# Altium footprint library Kinetis ARM.PcbLib: 19 footprints (part 1 of 2)
Each footprint in its own frame and in the unit in brackets; x right, y up, seen from the top. Pads: shape width x height; smd on the part's side, far side on the other; paste and mask are expansions set on the pad; w line width, h text height; cw(c..) or ccw(c..) is an arc to the next point about the centre after c.
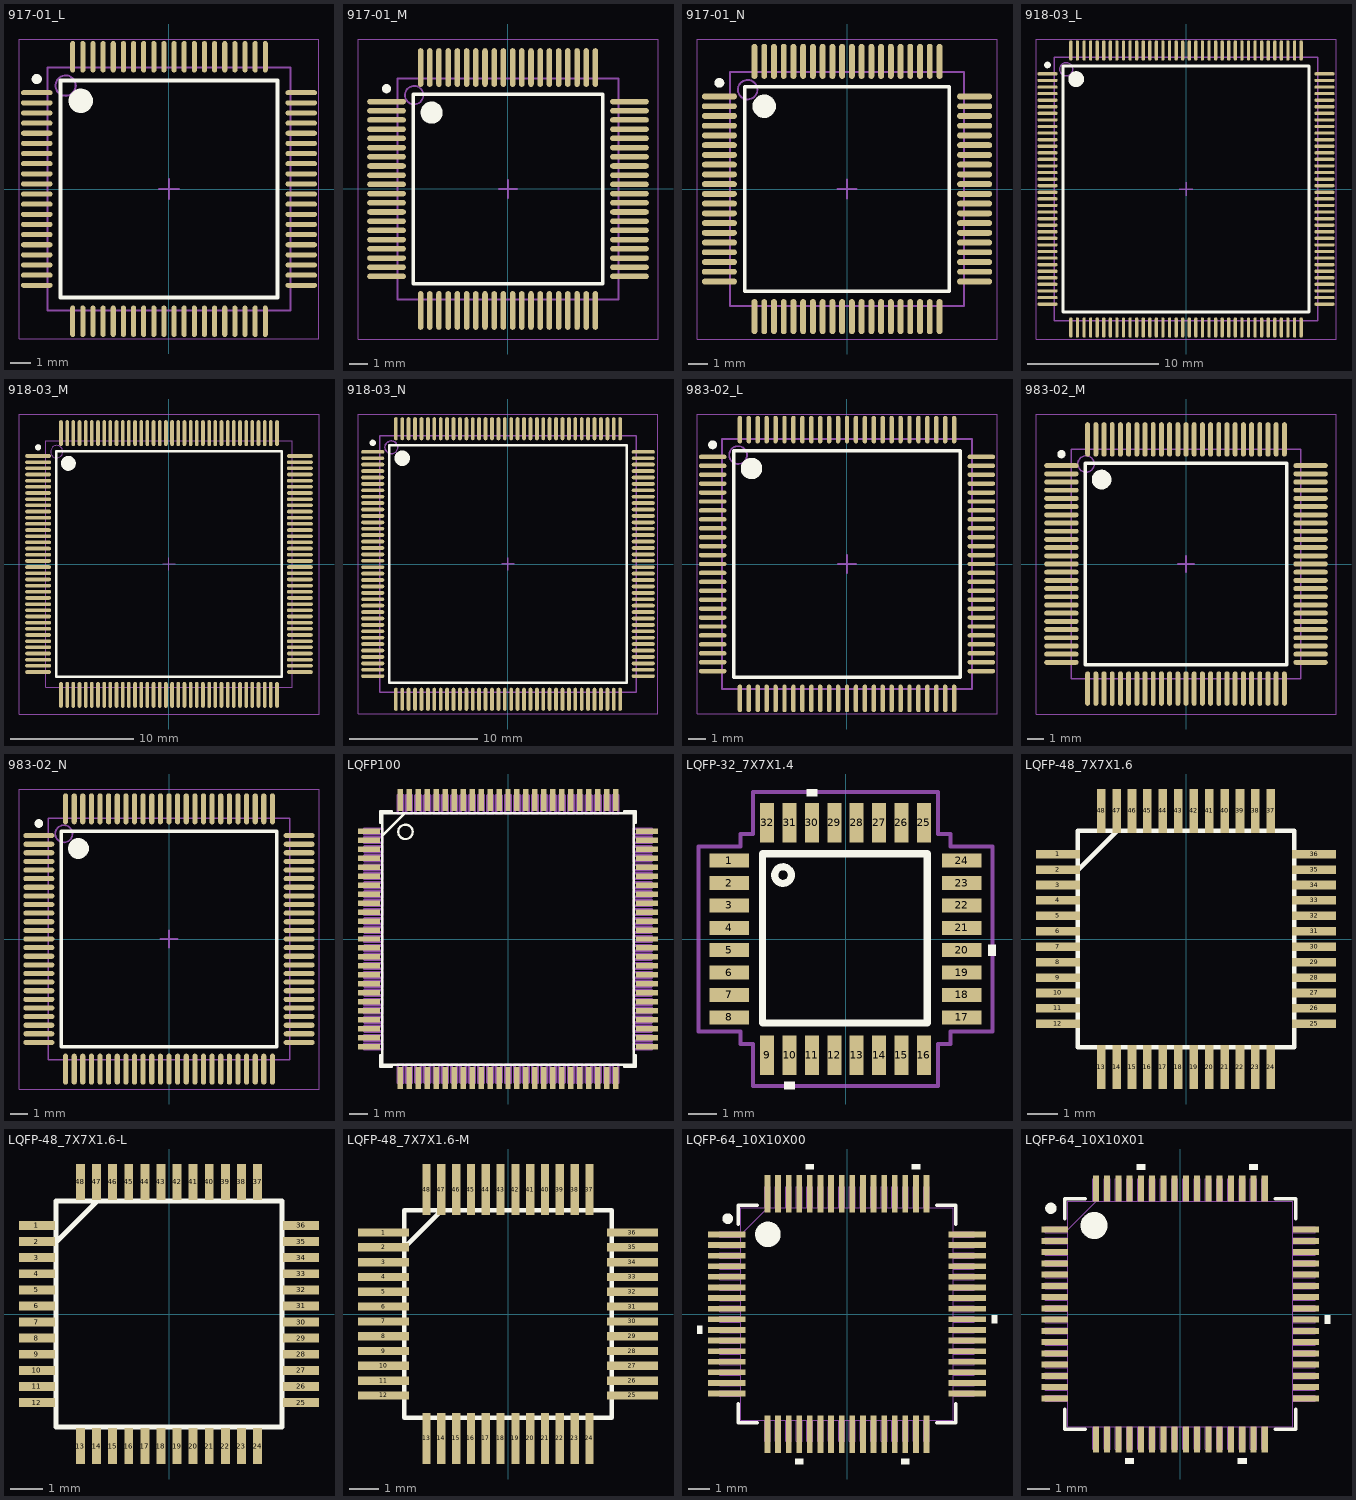
[diagram p0: the footprints below, top view; thin cyan lines are the x and y axes]

## 917-01_L [mm] "Thin QFP, 80-Leads, Body 12x12mm, Pitch 0.5mm, IPC High Density"
height 1.6
pads (80):
  oval 1.55x0.25 smd: 1(-6.525,4.75) 2(-6.525,4.25) 3(-6.525,3.75) 4(-6.525,3.25) 5(-6.525,2.75) 6(-6.525,2.25) 7(-6.525,1.75) 8(-6.525,1.25) 9(-6.525,0.75) 10(-6.525,0.25) 11(-6.525,-0.25) 12(-6.525,-0.75) 13(-6.525,-1.25) 14(-6.525,-1.75) 15(-6.525,-2.25) 16(-6.525,-2.75) 17(-6.525,-3.25) 18(-6.525,-3.75) 19(-6.525,-4.25) 20(-6.525,-4.75) 41(6.525,-4.75) 42(6.525,-4.25) 43(6.525,-3.75) 44(6.525,-3.25) 45(6.525,-2.75) 46(6.525,-2.25) 47(6.525,-1.75) 48(6.525,-1.25) 49(6.525,-0.75) 50(6.525,-0.25) 51(6.525,0.25) 52(6.525,0.75) 53(6.525,1.25) 54(6.525,1.75) 55(6.525,2.25) 56(6.525,2.75) 57(6.525,3.25) 58(6.525,3.75) 59(6.525,4.25) 60(6.525,4.75)
  oval 0.25x1.55 smd: 21(-4.75,-6.525) 22(-4.25,-6.525) 23(-3.75,-6.525) 24(-3.25,-6.525) 25(-2.75,-6.525) 26(-2.25,-6.525) 27(-1.75,-6.525) 28(-1.25,-6.525) 29(-0.75,-6.525) 30(-0.25,-6.525) 31(0.25,-6.525) 32(0.75,-6.525) 33(1.25,-6.525) 34(1.75,-6.525) 35(2.25,-6.525) 36(2.75,-6.525) 37(3.25,-6.525) 38(3.75,-6.525) 39(4.25,-6.525) 40(4.75,-6.525) 61(4.75,6.525) 62(4.25,6.525) 63(3.75,6.525) 64(3.25,6.525) 65(2.75,6.525) 66(2.25,6.525) 67(1.75,6.525) 68(1.25,6.525) 69(0.75,6.525) 70(0.25,6.525) 71(-0.25,6.525) 72(-0.75,6.525) 73(-1.25,6.525) 74(-1.75,6.525) 75(-2.25,6.525) 76(-2.75,6.525) 77(-3.25,6.525) 78(-3.75,6.525) 79(-4.25,6.525) 80(-4.75,6.525)
Top Overlay:
  circle w0.25: c-6.525,5.425 r0.125
  circle w0.6: c-4.35,4.35 r0.3
  lines w0.2: -5.35,-5.35 -5.35,5.35 5.35,5.35 5.35,-5.35 -5.35,-5.35
Mechanical 13:
  circle w0.1: c-5.1,5.1 r0.5
  lines w0.1: -6,-6 -6,6 6,6 6,-6 -6,-6
Mechanical 15:
  lines w0.05: -7.4,-7.4 -7.4,7.4 7.4,7.4 7.4,-7.4 -7.4,-7.4
  lines w0.1: -0.5,0 0.5,0 ; 0,-0.5 0,0.5
3D body "TQFP80.STEP": height 1.07, standoff 0.01, extent -7,-7 7,7

## 917-01_M [mm] "Thin QFP, 80-Leads, Body 12x12mm, Pitch 0.5mm, IPC Low Density"
height 1.6
pads (80):
  oval 2.1x0.3 smd: 1(-6.6,4.75) 2(-6.6,4.25) 3(-6.6,3.75) 4(-6.6,3.25) 5(-6.6,2.75) 6(-6.6,2.25) 7(-6.6,1.75) 8(-6.6,1.25) 9(-6.6,0.75) 10(-6.6,0.25) 11(-6.6,-0.25) 12(-6.6,-0.75) 13(-6.6,-1.25) 14(-6.6,-1.75) 15(-6.6,-2.25) 16(-6.6,-2.75) 17(-6.6,-3.25) 18(-6.6,-3.75) 19(-6.6,-4.25) 20(-6.6,-4.75) 41(6.6,-4.75) 42(6.6,-4.25) 43(6.6,-3.75) 44(6.6,-3.25) 45(6.6,-2.75) 46(6.6,-2.25) 47(6.6,-1.75) 48(6.6,-1.25) 49(6.6,-0.75) 50(6.6,-0.25) 51(6.6,0.25) 52(6.6,0.75) 53(6.6,1.25) 54(6.6,1.75) 55(6.6,2.25) 56(6.6,2.75) 57(6.6,3.25) 58(6.6,3.75) 59(6.6,4.25) 60(6.6,4.75)
  oval 0.3x2.1 smd: 21(-4.75,-6.6) 22(-4.25,-6.6) 23(-3.75,-6.6) 24(-3.25,-6.6) 25(-2.75,-6.6) 26(-2.25,-6.6) 27(-1.75,-6.6) 28(-1.25,-6.6) 29(-0.75,-6.6) 30(-0.25,-6.6) 31(0.25,-6.6) 32(0.75,-6.6) 33(1.25,-6.6) 34(1.75,-6.6) 35(2.25,-6.6) 36(2.75,-6.6) 37(3.25,-6.6) 38(3.75,-6.6) 39(4.25,-6.6) 40(4.75,-6.6) 61(4.75,6.6) 62(4.25,6.6) 63(3.75,6.6) 64(3.25,6.6) 65(2.75,6.6) 66(2.25,6.6) 67(1.75,6.6) 68(1.25,6.6) 69(0.75,6.6) 70(0.25,6.6) 71(-0.25,6.6) 72(-0.75,6.6) 73(-1.25,6.6) 74(-1.75,6.6) 75(-2.25,6.6) 76(-2.75,6.6) 77(-3.25,6.6) 78(-3.75,6.6) 79(-4.25,6.6) 80(-4.75,6.6)
Top Overlay:
  circle w0.25: c-6.6,5.45 r0.125
  circle w0.6: c-4.15,4.15 r0.3
  lines w0.2: -5.15,-5.15 -5.15,5.15 5.15,5.15 5.15,-5.15 -5.15,-5.15
Mechanical 13:
  circle w0.1: c-5.1,5.1 r0.5
  lines w0.1: -6,-6 -6,6 6,6 6,-6 -6,-6
Mechanical 15:
  lines w0.05: -8.15,-8.15 -8.15,8.15 8.15,8.15 8.15,-8.15 -8.15,-8.15
  lines w0.1: -0.5,0 0.5,0 ; 0,-0.5 0,0.5
3D body "TQFP80.STEP": height 1.07, standoff 0.01, extent -7.01,-6.99 6.99,7.01

## 917-01_N [mm] "Thin QFP, 80-Leads, Body 12x12mm, Pitch 0.5mm, IPC Medium Density"
height 1.6
pads (80):
  oval 1.8x0.3 smd: 1(-6.55,4.75) 2(-6.55,4.25) 3(-6.55,3.75) 4(-6.55,3.25) 5(-6.55,2.75) 6(-6.55,2.25) 7(-6.55,1.75) 8(-6.55,1.25) 9(-6.55,0.75) 10(-6.55,0.25) 11(-6.55,-0.25) 12(-6.55,-0.75) 13(-6.55,-1.25) 14(-6.55,-1.75) 15(-6.55,-2.25) 16(-6.55,-2.75) 17(-6.55,-3.25) 18(-6.55,-3.75) 19(-6.55,-4.25) 20(-6.55,-4.75) 41(6.55,-4.75) 42(6.55,-4.25) 43(6.55,-3.75) 44(6.55,-3.25) 45(6.55,-2.75) 46(6.55,-2.25) 47(6.55,-1.75) 48(6.55,-1.25) 49(6.55,-0.75) 50(6.55,-0.25) 51(6.55,0.25) 52(6.55,0.75) 53(6.55,1.25) 54(6.55,1.75) 55(6.55,2.25) 56(6.55,2.75) 57(6.55,3.25) 58(6.55,3.75) 59(6.55,4.25) 60(6.55,4.75)
  oval 0.3x1.8 smd: 21(-4.75,-6.55) 22(-4.25,-6.55) 23(-3.75,-6.55) 24(-3.25,-6.55) 25(-2.75,-6.55) 26(-2.25,-6.55) 27(-1.75,-6.55) 28(-1.25,-6.55) 29(-0.75,-6.55) 30(-0.25,-6.55) 31(0.25,-6.55) 32(0.75,-6.55) 33(1.25,-6.55) 34(1.75,-6.55) 35(2.25,-6.55) 36(2.75,-6.55) 37(3.25,-6.55) 38(3.75,-6.55) 39(4.25,-6.55) 40(4.75,-6.55) 61(4.75,6.55) 62(4.25,6.55) 63(3.75,6.55) 64(3.25,6.55) 65(2.75,6.55) 66(2.25,6.55) 67(1.75,6.55) 68(1.25,6.55) 69(0.75,6.55) 70(0.25,6.55) 71(-0.25,6.55) 72(-0.75,6.55) 73(-1.25,6.55) 74(-1.75,6.55) 75(-2.25,6.55) 76(-2.75,6.55) 77(-3.25,6.55) 78(-3.75,6.55) 79(-4.25,6.55) 80(-4.75,6.55)
Top Overlay:
  circle w0.6: c-4.25,4.25 r0.3
  circle w0.25: c-6.55,5.45 r0.125
  lines w0.2: -5.25,-5.25 5.25,-5.25 5.25,5.25 -5.25,5.25 -5.25,-5.25
Mechanical 13:
  circle w0.1: c-5.1,5.1 r0.5
  lines w0.1: -6,-6 6,-6 6,6 -6,6 -6,-6
Mechanical 15:
  lines w0.05: -7.7,-7.7 7.7,-7.7 7.7,7.7 -7.7,7.7 -7.7,-7.7
  lines w0.1: -0.5,0 0.5,0 ; 0,-0.5 0,0.5
3D body "TQFP80.STEP": height 1.07, standoff 0.01, extent -6.985,-6.99 7.015,7.01

## 918-03_L [mm] "Thin QFP, 144-Leads, Body 20x20mm, Pitch 0.5mm, IPC High Density"
height 1.6
pads (144):
  oval 1.55x0.25 smd: 1(-10.525,8.75) 2(-10.525,8.25) 3(-10.525,7.75) 4(-10.525,7.25) 5(-10.525,6.75) 6(-10.525,6.25) 7(-10.525,5.75) 8(-10.525,5.25) 9(-10.525,4.75) 10(-10.525,4.25) 11(-10.525,3.75) 12(-10.525,3.25) 13(-10.525,2.75) 14(-10.525,2.25) 15(-10.525,1.75) 16(-10.525,1.25) 17(-10.525,0.75) 18(-10.525,0.25) 19(-10.525,-0.25) 20(-10.525,-0.75) 21(-10.525,-1.25) 22(-10.525,-1.75) 23(-10.525,-2.25) 24(-10.525,-2.75) 25(-10.525,-3.25) 26(-10.525,-3.75) 27(-10.525,-4.25) 28(-10.525,-4.75) 29(-10.525,-5.25) 30(-10.525,-5.75) 31(-10.525,-6.25) 32(-10.525,-6.75) 33(-10.525,-7.25) 34(-10.525,-7.75) 35(-10.525,-8.25) 36(-10.525,-8.75) 73(10.525,-8.75) 74(10.525,-8.25) 75(10.525,-7.75) 76(10.525,-7.25) 77(10.525,-6.75) 78(10.525,-6.25) 79(10.525,-5.75) 80(10.525,-5.25) 81(10.525,-4.75) 82(10.525,-4.25) 83(10.525,-3.75) 84(10.525,-3.25) 85(10.525,-2.75) 86(10.525,-2.25) 87(10.525,-1.75) 88(10.525,-1.25) 89(10.525,-0.75) 90(10.525,-0.25) 91(10.525,0.25) 92(10.525,0.75) 93(10.525,1.25) 94(10.525,1.75) 95(10.525,2.25) 96(10.525,2.75) 97(10.525,3.25) 98(10.525,3.75) 99(10.525,4.25) 100(10.525,4.75) 101(10.525,5.25) 102(10.525,5.75) 103(10.525,6.25) 104(10.525,6.75) 105(10.525,7.25) 106(10.525,7.75) 107(10.525,8.25) 108(10.525,8.75)
  oval 0.25x1.55 smd: 37(-8.75,-10.525) 38(-8.25,-10.525) 39(-7.75,-10.525) 40(-7.25,-10.525) 41(-6.75,-10.525) 42(-6.25,-10.525) 43(-5.75,-10.525) 44(-5.25,-10.525) 45(-4.75,-10.525) 46(-4.25,-10.525) 47(-3.75,-10.525) 48(-3.25,-10.525) 49(-2.75,-10.525) 50(-2.25,-10.525) 51(-1.75,-10.525) 52(-1.25,-10.525) 53(-0.75,-10.525) 54(-0.25,-10.525) 55(0.25,-10.525) 56(0.75,-10.525) 57(1.25,-10.525) 58(1.75,-10.525) 59(2.25,-10.525) 60(2.75,-10.525) 61(3.25,-10.525) 62(3.75,-10.525) 63(4.25,-10.525) 64(4.75,-10.525) 65(5.25,-10.525) 66(5.75,-10.525) 67(6.25,-10.525) 68(6.75,-10.525) 69(7.25,-10.525) 70(7.75,-10.525) 71(8.25,-10.525) 72(8.75,-10.525) 109(8.75,10.525) 110(8.25,10.525) 111(7.75,10.525) 112(7.25,10.525) 113(6.75,10.525) 114(6.25,10.525) 115(5.75,10.525) 116(5.25,10.525) 117(4.75,10.525) 118(4.25,10.525) 119(3.75,10.525) 120(3.25,10.525) 121(2.75,10.525) 122(2.25,10.525) 123(1.75,10.525) 124(1.25,10.525) 125(0.75,10.525) 126(0.25,10.525) 127(-0.25,10.525) 128(-0.75,10.525) 129(-1.25,10.525) 130(-1.75,10.525) 131(-2.25,10.525) 132(-2.75,10.525) 133(-3.25,10.525) 134(-3.75,10.525) 135(-4.25,10.525) 136(-4.75,10.525) 137(-5.25,10.525) 138(-5.75,10.525) 139(-6.25,10.525) 140(-6.75,10.525) 141(-7.25,10.525) 142(-7.75,10.525) 143(-8.25,10.525) 144(-8.75,10.525)
Top Overlay:
  circle w0.25: c-10.525,9.425 r0.125
  circle w0.6: c-8.35,8.35 r0.3
  lines w0.2: -9.35,-9.35 -9.35,9.35 9.35,9.35 9.35,-9.35 -9.35,-9.35
Mechanical 13:
  circle w0.1: c-9.1,9.1 r0.5
  lines w0.1: -10,-10 -10,10 10,10 10,-10 -10,-10
Mechanical 15:
  lines w0.05: -11.4,-11.4 -11.4,11.4 11.4,11.4 11.4,-11.4 -11.4,-11.4
  lines w0.1: -0.5,0 0.5,0 ; 0,-0.5 0,0.5
3D body "LQFP144-2.step": height 1.61, standoff 0.01, extent -10.998,-10.976 11.002,11.024

## 918-03_M [mm] "Thin QFP, 144-Leads, Body 20x20mm, Pitch 0.5mm, IPC Low Density"
height 1.6
pads (144):
  oval 2.1x0.3 smd: 1(-10.6,8.75) 2(-10.6,8.25) 3(-10.6,7.75) 4(-10.6,7.25) 5(-10.6,6.75) 6(-10.6,6.25) 7(-10.6,5.75) 8(-10.6,5.25) 9(-10.6,4.75) 10(-10.6,4.25) 11(-10.6,3.75) 12(-10.6,3.25) 13(-10.6,2.75) 14(-10.6,2.25) 15(-10.6,1.75) 16(-10.6,1.25) 17(-10.6,0.75) 18(-10.6,0.25) 19(-10.6,-0.25) 20(-10.6,-0.75) 21(-10.6,-1.25) 22(-10.6,-1.75) 23(-10.6,-2.25) 24(-10.6,-2.75) 25(-10.6,-3.25) 26(-10.6,-3.75) 27(-10.6,-4.25) 28(-10.6,-4.75) 29(-10.6,-5.25) 30(-10.6,-5.75) 31(-10.6,-6.25) 32(-10.6,-6.75) 33(-10.6,-7.25) 34(-10.6,-7.75) 35(-10.6,-8.25) 36(-10.6,-8.75) 73(10.6,-8.75) 74(10.6,-8.25) 75(10.6,-7.75) 76(10.6,-7.25) 77(10.6,-6.75) 78(10.6,-6.25) 79(10.6,-5.75) 80(10.6,-5.25) 81(10.6,-4.75) 82(10.6,-4.25) 83(10.6,-3.75) 84(10.6,-3.25) 85(10.6,-2.75) 86(10.6,-2.25) 87(10.6,-1.75) 88(10.6,-1.25) 89(10.6,-0.75) 90(10.6,-0.25) 91(10.6,0.25) 92(10.6,0.75) 93(10.6,1.25) 94(10.6,1.75) 95(10.6,2.25) 96(10.6,2.75) 97(10.6,3.25) 98(10.6,3.75) 99(10.6,4.25) 100(10.6,4.75) 101(10.6,5.25) 102(10.6,5.75) 103(10.6,6.25) 104(10.6,6.75) 105(10.6,7.25) 106(10.6,7.75) 107(10.6,8.25) 108(10.6,8.75)
  oval 0.3x2.1 smd: 37(-8.75,-10.6) 38(-8.25,-10.6) 39(-7.75,-10.6) 40(-7.25,-10.6) 41(-6.75,-10.6) 42(-6.25,-10.6) 43(-5.75,-10.6) 44(-5.25,-10.6) 45(-4.75,-10.6) 46(-4.25,-10.6) 47(-3.75,-10.6) 48(-3.25,-10.6) 49(-2.75,-10.6) 50(-2.25,-10.6) 51(-1.75,-10.6) 52(-1.25,-10.6) 53(-0.75,-10.6) 54(-0.25,-10.6) 55(0.25,-10.6) 56(0.75,-10.6) 57(1.25,-10.6) 58(1.75,-10.6) 59(2.25,-10.6) 60(2.75,-10.6) 61(3.25,-10.6) 62(3.75,-10.6) 63(4.25,-10.6) 64(4.75,-10.6) 65(5.25,-10.6) 66(5.75,-10.6) 67(6.25,-10.6) 68(6.75,-10.6) 69(7.25,-10.6) 70(7.75,-10.6) 71(8.25,-10.6) 72(8.75,-10.6) 109(8.75,10.6) 110(8.25,10.6) 111(7.75,10.6) 112(7.25,10.6) 113(6.75,10.6) 114(6.25,10.6) 115(5.75,10.6) 116(5.25,10.6) 117(4.75,10.6) 118(4.25,10.6) 119(3.75,10.6) 120(3.25,10.6) 121(2.75,10.6) 122(2.25,10.6) 123(1.75,10.6) 124(1.25,10.6) 125(0.75,10.6) 126(0.25,10.6) 127(-0.25,10.6) 128(-0.75,10.6) 129(-1.25,10.6) 130(-1.75,10.6) 131(-2.25,10.6) 132(-2.75,10.6) 133(-3.25,10.6) 134(-3.75,10.6) 135(-4.25,10.6) 136(-4.75,10.6) 137(-5.25,10.6) 138(-5.75,10.6) 139(-6.25,10.6) 140(-6.75,10.6) 141(-7.25,10.6) 142(-7.75,10.6) 143(-8.25,10.6) 144(-8.75,10.6)
Top Overlay:
  circle w0.25: c-10.6,9.45 r0.125
  circle w0.6: c-8.15,8.15 r0.3
  lines w0.2: -9.15,-9.15 -9.15,9.15 9.15,9.15 9.15,-9.15 -9.15,-9.15
Mechanical 13:
  circle w0.1: c-9.1,9.1 r0.5
  lines w0.1: -10,-10 -10,10 10,10 10,-10 -10,-10
Mechanical 15:
  lines w0.05: -12.15,-12.15 -12.15,12.15 12.15,12.15 12.15,-12.15 -12.15,-12.15
  lines w0.1: -0.5,0 0.5,0 ; 0,-0.5 0,0.5
3D body "LQFP144-2.step": height 1.61, standoff 0.01, extent -10.998,-11.002 11.002,10.998

## 918-03_N [mm] "Thin QFP, 144-Leads, Body 20x20mm, Pitch 0.5mm, IPC Medium Density"
height 1.6
pads (144):
  oval 1.8x0.3 smd: 1(-10.55,8.75) 2(-10.55,8.25) 3(-10.55,7.75) 4(-10.55,7.25) 5(-10.55,6.75) 6(-10.55,6.25) 7(-10.55,5.75) 8(-10.55,5.25) 9(-10.55,4.75) 10(-10.55,4.25) 11(-10.55,3.75) 12(-10.55,3.25) 13(-10.55,2.75) 14(-10.55,2.25) 15(-10.55,1.75) 16(-10.55,1.25) 17(-10.55,0.75) 18(-10.55,0.25) 19(-10.55,-0.25) 20(-10.55,-0.75) 21(-10.55,-1.25) 22(-10.55,-1.75) 23(-10.55,-2.25) 24(-10.55,-2.75) 25(-10.55,-3.25) 26(-10.55,-3.75) 27(-10.55,-4.25) 28(-10.55,-4.75) 29(-10.55,-5.25) 30(-10.55,-5.75) 31(-10.55,-6.25) 32(-10.55,-6.75) 33(-10.55,-7.25) 34(-10.55,-7.75) 35(-10.55,-8.25) 36(-10.55,-8.75) 73(10.55,-8.75) 74(10.55,-8.25) 75(10.55,-7.75) 76(10.55,-7.25) 77(10.55,-6.75) 78(10.55,-6.25) 79(10.55,-5.75) 80(10.55,-5.25) 81(10.55,-4.75) 82(10.55,-4.25) 83(10.55,-3.75) 84(10.55,-3.25) 85(10.55,-2.75) 86(10.55,-2.25) 87(10.55,-1.75) 88(10.55,-1.25) 89(10.55,-0.75) 90(10.55,-0.25) 91(10.55,0.25) 92(10.55,0.75) 93(10.55,1.25) 94(10.55,1.75) 95(10.55,2.25) 96(10.55,2.75) 97(10.55,3.25) 98(10.55,3.75) 99(10.55,4.25) 100(10.55,4.75) 101(10.55,5.25) 102(10.55,5.75) 103(10.55,6.25) 104(10.55,6.75) 105(10.55,7.25) 106(10.55,7.75) 107(10.55,8.25) 108(10.55,8.75)
  oval 0.3x1.8 smd: 37(-8.75,-10.55) 38(-8.25,-10.55) 39(-7.75,-10.55) 40(-7.25,-10.55) 41(-6.75,-10.55) 42(-6.25,-10.55) 43(-5.75,-10.55) 44(-5.25,-10.55) 45(-4.75,-10.55) 46(-4.25,-10.55) 47(-3.75,-10.55) 48(-3.25,-10.55) 49(-2.75,-10.55) 50(-2.25,-10.55) 51(-1.75,-10.55) 52(-1.25,-10.55) 53(-0.75,-10.55) 54(-0.25,-10.55) 55(0.25,-10.55) 56(0.75,-10.55) 57(1.25,-10.55) 58(1.75,-10.55) 59(2.25,-10.55) 60(2.75,-10.55) 61(3.25,-10.55) 62(3.75,-10.55) 63(4.25,-10.55) 64(4.75,-10.55) 65(5.25,-10.55) 66(5.75,-10.55) 67(6.25,-10.55) 68(6.75,-10.55) 69(7.25,-10.55) 70(7.75,-10.55) 71(8.25,-10.55) 72(8.75,-10.55) 109(8.75,10.55) 110(8.25,10.55) 111(7.75,10.55) 112(7.25,10.55) 113(6.75,10.55) 114(6.25,10.55) 115(5.75,10.55) 116(5.25,10.55) 117(4.75,10.55) 118(4.25,10.55) 119(3.75,10.55) 120(3.25,10.55) 121(2.75,10.55) 122(2.25,10.55) 123(1.75,10.55) 124(1.25,10.55) 125(0.75,10.55) 126(0.25,10.55) 127(-0.25,10.55) 128(-0.75,10.55) 129(-1.25,10.55) 130(-1.75,10.55) 131(-2.25,10.55) 132(-2.75,10.55) 133(-3.25,10.55) 134(-3.75,10.55) 135(-4.25,10.55) 136(-4.75,10.55) 137(-5.25,10.55) 138(-5.75,10.55) 139(-6.25,10.55) 140(-6.75,10.55) 141(-7.25,10.55) 142(-7.75,10.55) 143(-8.25,10.55) 144(-8.75,10.55)
Top Overlay:
  circle w0.6: c-8.25,8.25 r0.3
  circle w0.25: c-10.55,9.45 r0.125
  lines w0.2: -9.25,-9.25 9.25,-9.25 9.25,9.25 -9.25,9.25 -9.25,-9.25
Mechanical 13:
  circle w0.1: c-9.1,9.1 r0.5
  lines w0.1: -10,-10 10,-10 10,10 -10,10 -10,-10
Mechanical 15:
  lines w0.05: -11.7,-11.7 11.7,-11.7 11.7,11.7 -11.7,11.7 -11.7,-11.7
  lines w0.1: -0.5,0 0.5,0 ; 0,-0.5 0,0.5
3D body "LQFP144-2.step": height 1.61, standoff 0.01, extent -10.998,-11.002 11.002,10.998

## 983-02_L [mm] "Shrink QFP, 100-Leads, Body 14x14mm, Pitch 0.5mm, IPC High Density"
height 1.7
pads (100):
  oval 1.55x0.25 smd: 1(-7.525,6) 2(-7.525,5.5) 3(-7.525,5) 4(-7.525,4.5) 5(-7.525,4) 6(-7.525,3.5) 7(-7.525,3) 8(-7.525,2.5) 9(-7.525,2) 10(-7.525,1.5) 11(-7.525,1) 12(-7.525,0.5) 13(-7.525,0) 14(-7.525,-0.5) 15(-7.525,-1) 16(-7.525,-1.5) 17(-7.525,-2) 18(-7.525,-2.5) 19(-7.525,-3) 20(-7.525,-3.5) 21(-7.525,-4) 22(-7.525,-4.5) 23(-7.525,-5) 24(-7.525,-5.5) 25(-7.525,-6) 51(7.525,-6) 52(7.525,-5.5) 53(7.525,-5) 54(7.525,-4.5) 55(7.525,-4) 56(7.525,-3.5) 57(7.525,-3) 58(7.525,-2.5) 59(7.525,-2) 60(7.525,-1.5) 61(7.525,-1) 62(7.525,-0.5) 63(7.525,0) 64(7.525,0.5) 65(7.525,1) 66(7.525,1.5) 67(7.525,2) 68(7.525,2.5) 69(7.525,3) 70(7.525,3.5) 71(7.525,4) 72(7.525,4.5) 73(7.525,5) 74(7.525,5.5) 75(7.525,6)
  oval 0.25x1.55 smd: 26(-6,-7.525) 27(-5.5,-7.525) 28(-5,-7.525) 29(-4.5,-7.525) 30(-4,-7.525) 31(-3.5,-7.525) 32(-3,-7.525) 33(-2.5,-7.525) 34(-2,-7.525) 35(-1.5,-7.525) 36(-1,-7.525) 37(-0.5,-7.525) 38(0,-7.525) 39(0.5,-7.525) 40(1,-7.525) 41(1.5,-7.525) 42(2,-7.525) 43(2.5,-7.525) 44(3,-7.525) 45(3.5,-7.525) 46(4,-7.525) 47(4.5,-7.525) 48(5,-7.525) 49(5.5,-7.525) 50(6,-7.525) 76(6,7.525) 77(5.5,7.525) 78(5,7.525) 79(4.5,7.525) 80(4,7.525) 81(3.5,7.525) 82(3,7.525) 83(2.5,7.525) 84(2,7.525) 85(1.5,7.525) 86(1,7.525) 87(0.5,7.525) 88(0,7.525) 89(-0.5,7.525) 90(-1,7.525) 91(-1.5,7.525) 92(-2,7.525) 93(-2.5,7.525) 94(-3,7.525) 95(-3.5,7.525) 96(-4,7.525) 97(-4.5,7.525) 98(-5,7.525) 99(-5.5,7.525) 100(-6,7.525)
Top Overlay:
  circle w0.6: c-5.35,5.35 r0.3
  circle w0.25: c-7.525,6.675 r0.125
  lines w0.2: -6.35,-6.35 6.35,-6.35 6.35,6.35 -6.35,6.35 -6.35,-6.35
Mechanical 13:
  circle w0.1: c-6.1,6.1 r0.5
  lines w0.1: -7,-7 7,-7 7,7 -7,7 -7,-7
Mechanical 15:
  lines w0.05: -8.4,-8.4 8.4,-8.4 8.4,8.4 -8.4,8.4 -8.4,-8.4
  lines w0.1: -0.5,0 0.5,0 ; 0,-0.5 0,0.5
3D body "TQFP100-1.STEP": height 1.46, standoff -0.16, extent -8.001,-7.999 7.999,8.001

## 983-02_M [mm] "Shrink QFP, 100-Leads, Body 14x14mm, Pitch 0.5mm, IPC Low Density"
height 1.7
pads (100):
  oval 2.1x0.3 smd: 1(-7.6,6) 2(-7.6,5.5) 3(-7.6,5) 4(-7.6,4.5) 5(-7.6,4) 6(-7.6,3.5) 7(-7.6,3) 8(-7.6,2.5) 9(-7.6,2) 10(-7.6,1.5) 11(-7.6,1) 12(-7.6,0.5) 13(-7.6,0) 14(-7.6,-0.5) 15(-7.6,-1) 16(-7.6,-1.5) 17(-7.6,-2) 18(-7.6,-2.5) 19(-7.6,-3) 20(-7.6,-3.5) 21(-7.6,-4) 22(-7.6,-4.5) 23(-7.6,-5) 24(-7.6,-5.5) 25(-7.6,-6) 51(7.6,-6) 52(7.6,-5.5) 53(7.6,-5) 54(7.6,-4.5) 55(7.6,-4) 56(7.6,-3.5) 57(7.6,-3) 58(7.6,-2.5) 59(7.6,-2) 60(7.6,-1.5) 61(7.6,-1) 62(7.6,-0.5) 63(7.6,0) 64(7.6,0.5) 65(7.6,1) 66(7.6,1.5) 67(7.6,2) 68(7.6,2.5) 69(7.6,3) 70(7.6,3.5) 71(7.6,4) 72(7.6,4.5) 73(7.6,5) 74(7.6,5.5) 75(7.6,6)
  oval 0.3x2.1 smd: 26(-6,-7.6) 27(-5.5,-7.6) 28(-5,-7.6) 29(-4.5,-7.6) 30(-4,-7.6) 31(-3.5,-7.6) 32(-3,-7.6) 33(-2.5,-7.6) 34(-2,-7.6) 35(-1.5,-7.6) 36(-1,-7.6) 37(-0.5,-7.6) 38(0,-7.6) 39(0.5,-7.6) 40(1,-7.6) 41(1.5,-7.6) 42(2,-7.6) 43(2.5,-7.6) 44(3,-7.6) 45(3.5,-7.6) 46(4,-7.6) 47(4.5,-7.6) 48(5,-7.6) 49(5.5,-7.6) 50(6,-7.6) 76(6,7.6) 77(5.5,7.6) 78(5,7.6) 79(4.5,7.6) 80(4,7.6) 81(3.5,7.6) 82(3,7.6) 83(2.5,7.6) 84(2,7.6) 85(1.5,7.6) 86(1,7.6) 87(0.5,7.6) 88(0,7.6) 89(-0.5,7.6) 90(-1,7.6) 91(-1.5,7.6) 92(-2,7.6) 93(-2.5,7.6) 94(-3,7.6) 95(-3.5,7.6) 96(-4,7.6) 97(-4.5,7.6) 98(-5,7.6) 99(-5.5,7.6) 100(-6,7.6)
Top Overlay:
  circle w0.25: c-7.6,6.7 r0.125
  circle w0.6: c-5.15,5.15 r0.3
  lines w0.2: -6.15,-6.15 -6.15,6.15 6.15,6.15 6.15,-6.15 -6.15,-6.15
Mechanical 13:
  circle w0.1: c-6.1,6.1 r0.5
  lines w0.1: -7,-7 -7,7 7,7 7,-7 -7,-7
Mechanical 15:
  lines w0.05: -9.15,-9.15 -9.15,9.15 9.15,9.15 9.15,-9.15 -9.15,-9.15
  lines w0.1: -0.5,0 0.5,0 ; 0,-0.5 0,0.5
3D body "TQFP100-1.STEP": height 1.46, standoff -0.16, extent -8.001,-7.999 7.999,8.001

## 983-02_N [mm] "Shrink QFP, 100-Leads, Body 14x14mm, Pitch 0.5mm, IPC Medium Density"
height 1.7
pads (100):
  oval 1.8x0.3 smd: 1(-7.55,6) 2(-7.55,5.5) 3(-7.55,5) 4(-7.55,4.5) 5(-7.55,4) 6(-7.55,3.5) 7(-7.55,3) 8(-7.55,2.5) 9(-7.55,2) 10(-7.55,1.5) 11(-7.55,1) 12(-7.55,0.5) 13(-7.55,0) 14(-7.55,-0.5) 15(-7.55,-1) 16(-7.55,-1.5) 17(-7.55,-2) 18(-7.55,-2.5) 19(-7.55,-3) 20(-7.55,-3.5) 21(-7.55,-4) 22(-7.55,-4.5) 23(-7.55,-5) 24(-7.55,-5.5) 25(-7.55,-6) 51(7.55,-6) 52(7.55,-5.5) 53(7.55,-5) 54(7.55,-4.5) 55(7.55,-4) 56(7.55,-3.5) 57(7.55,-3) 58(7.55,-2.5) 59(7.55,-2) 60(7.55,-1.5) 61(7.55,-1) 62(7.55,-0.5) 63(7.55,0) 64(7.55,0.5) 65(7.55,1) 66(7.55,1.5) 67(7.55,2) 68(7.55,2.5) 69(7.55,3) 70(7.55,3.5) 71(7.55,4) 72(7.55,4.5) 73(7.55,5) 74(7.55,5.5) 75(7.55,6)
  oval 0.3x1.8 smd: 26(-6,-7.55) 27(-5.5,-7.55) 28(-5,-7.55) 29(-4.5,-7.55) 30(-4,-7.55) 31(-3.5,-7.55) 32(-3,-7.55) 33(-2.5,-7.55) 34(-2,-7.55) 35(-1.5,-7.55) 36(-1,-7.55) 37(-0.5,-7.55) 38(0,-7.55) 39(0.5,-7.55) 40(1,-7.55) 41(1.5,-7.55) 42(2,-7.55) 43(2.5,-7.55) 44(3,-7.55) 45(3.5,-7.55) 46(4,-7.55) 47(4.5,-7.55) 48(5,-7.55) 49(5.5,-7.55) 50(6,-7.55) 76(6,7.55) 77(5.5,7.55) 78(5,7.55) 79(4.5,7.55) 80(4,7.55) 81(3.5,7.55) 82(3,7.55) 83(2.5,7.55) 84(2,7.55) 85(1.5,7.55) 86(1,7.55) 87(0.5,7.55) 88(0,7.55) 89(-0.5,7.55) 90(-1,7.55) 91(-1.5,7.55) 92(-2,7.55) 93(-2.5,7.55) 94(-3,7.55) 95(-3.5,7.55) 96(-4,7.55) 97(-4.5,7.55) 98(-5,7.55) 99(-5.5,7.55) 100(-6,7.55)
Top Overlay:
  circle w0.25: c-7.55,6.7 r0.125
  circle w0.6: c-5.25,5.25 r0.3
  lines w0.2: -6.25,-6.25 -6.25,6.25 6.25,6.25 6.25,-6.25 -6.25,-6.25
Mechanical 13:
  circle w0.1: c-6.1,6.1 r0.5
  lines w0.1: -7,-7 -7,7 7,7 7,-7 -7,-7
Mechanical 15:
  lines w0.05: -8.7,-8.7 -8.7,8.7 8.7,8.7 8.7,-8.7 -8.7,-8.7
  lines w0.1: -0.5,0 0.5,0 ; 0,-0.5 0,0.5
3D body "TQFP100-1.STEP": height 1.46, standoff -0.16, extent -8.001,-7.999 7.999,8.001

## LQFP100 [mil]
pads (100):
  rect 48x12 smd: 1(-305,236.22) 2(-305,216.54) 3(-305,196.85) 4(-305,177.17) 5(-305,157.48) 6(-305,137.8) 7(-305,118.11) 8(-305,98.43) 9(-305,78.74) 10(-305,59.06) 11(-305,39.37) 12(-305,19.69) 13(-305,0) 14(-305,-19.69) 15(-305,-39.37) 16(-305,-59.06) 17(-305,-78.74) 18(-305,-98.43) 19(-305,-118.11) 20(-305,-137.8) 21(-305,-157.48) 22(-305,-177.17) 23(-305,-196.85) 24(-305,-216.54) 25(-305,-236.22) 51(305,-236.22) 52(305,-216.54) 53(305,-196.85) 54(305,-177.17) 55(305,-157.48) 56(305,-137.8) 57(305,-118.11) 58(305,-98.43) 59(305,-78.74) 60(305,-59.06) 61(305,-39.37) 62(305,-19.69) 63(305,0) 64(305,19.69) 65(305,39.37) 66(305,59.06) 67(305,78.74) 68(305,98.43) 69(305,118.11) 70(305,137.8) 71(305,157.48) 72(305,177.17) 73(305,196.85) 74(305,216.54) 75(305,236.22)
  rect 12x48 smd: 26(-236.22,-305) 27(-216.54,-305) 28(-196.85,-305) 29(-177.17,-305) 30(-157.48,-305) 31(-137.8,-305) 32(-118.11,-305) 33(-98.43,-305) 34(-78.74,-305) 35(-59.06,-305) 36(-39.37,-305) 37(-19.69,-305) 38(0,-305) 39(19.69,-305) 40(39.37,-305) 41(59.06,-305) 42(78.74,-305) 43(98.43,-305) 44(118.11,-305) 45(137.8,-305) 46(157.48,-305) 47(177.17,-305) 48(196.85,-305) 49(216.54,-305) 50(236.22,-305) 76(236.22,305) 77(216.54,305) 78(196.85,305) 79(177.17,305) 80(157.48,305) 81(137.8,305) 82(118.11,305) 83(98.43,305) 84(78.74,305) 85(59.06,305) 86(39.37,305) 87(19.69,305) 88(0,305) 89(-19.69,305) 90(-39.37,305) 91(-59.06,305) 92(-78.74,305) 93(-98.43,305) 94(-118.11,305) 95(-137.8,305) 96(-157.48,305) 97(-177.17,305) 98(-196.85,305) 99(-216.54,305) 100(-236.22,305)
Top Overlay:
  circle w5: c-225,235 r15.81
  lines w6: -280,-255 -280,-280 -255,-280 ; -280,255 -280,280 -255,280 ; -276,226 -226,276 ; 255,-280 280,-280 280,-255 ; 255,280 280,280 280,255 ; -276,-276 -276,276 276,276 276,-276 -276,-276
Mechanical 16:
  drawing of 400 lines, arcs and shapes, not listed
3D body "LQFP100_14x14mm_Pitch0.5mm.step": height 62.99, standoff 0, extent -313.96,-314.96 315.96,314.96

## LQFP-32_7X7X1.4 [mm]
pads (32):
  rect 1.411x0.501 smd: 1(-4.15,2.8) 2(-4.15,2) 3(-4.15,1.2) 4(-4.15,0.4) 5(-4.15,-0.4) 6(-4.15,-1.2) 7(-4.15,-2) 8(-4.15,-2.8) 17(4.15,-2.8) 18(4.15,-2) 19(4.15,-1.2) 20(4.15,-0.4) 21(4.15,0.4) 22(4.15,1.2) 23(4.15,2) 24(4.15,2.8)
  rect 0.501x1.411 smd: 9(-2.8,-4.15) 10(-2,-4.15) 11(-1.2,-4.15) 12(-0.4,-4.15) 13(0.4,-4.15) 14(1.2,-4.15) 15(2,-4.15) 16(2.8,-4.15) 25(2.8,4.15) 26(2,4.15) 27(1.2,4.15) 28(0.4,4.15) 29(-0.4,4.15) 30(-1.2,4.15) 31(-2,4.15) 32(-2.8,4.15)
Top Overlay:
  circle w0.254: c-2.235,2.286 r0.297
  region: -1.01,5.11 -1.391,5.11 -1.391,5.364 -1.01,5.364
  region: 5.11,-0.209 5.364,-0.209 5.364,-0.59 5.11,-0.59
  region: -1.81,-5.11 -2.191,-5.11 -2.191,-5.364 -1.81,-5.364
  lines w0.254: -2.972,-2.997 -2.972,3.048 2.921,3.048 2.921,-2.997 -2.972,-2.997
Mechanical 13:
  text "*" at -3.119,3.2 h1.27
Mechanical 15:
  lines w0.152: -5.258,-3.308 -5.258,3.308 -3.754,3.308 -3.754,3.754 -3.308,3.754 -3.308,5.258 3.308,5.258 3.308,3.754 3.754,3.754 3.754,3.308 5.258,3.308 5.258,-3.308 3.754,-3.308 3.754,-3.754 3.308,-3.754 3.308,-5.258 -3.308,-5.258 -3.308,-3.754 -3.754,-3.754 -3.754,-3.308 -5.258,-3.308
3D body "User Library-LQFP32-2.STEP": height 1.62, standoff -0.01, extent -4.572,-4.597 4.572,4.546

## LQFP-48_7X7X1.6 [mil]
pads (48):
  rect 56x11 smd: 1(-163.39,108.27) 2(-163.39,88.58) 3(-163.39,68.9) 4(-163.39,49.21) 5(-163.39,29.53) 6(-163.39,9.84) 7(-163.39,-9.84) 8(-163.39,-29.53) 9(-163.39,-49.21) 10(-163.39,-68.9) 11(-163.39,-88.58) 12(-163.39,-108.27) 25(163.39,-108.27) 26(163.39,-88.58) 27(163.39,-68.9) 28(163.39,-49.21) 29(163.39,-29.53) 30(163.39,-9.84) 31(163.39,9.84) 32(163.39,29.53) 33(163.39,49.21) 34(163.39,68.9) 35(163.39,88.58) 36(163.39,108.27)
  rect 11x56 smd: 13(-108.27,-163.39) 14(-88.58,-163.39) 15(-68.9,-163.39) 16(-49.21,-163.39) 17(-29.53,-163.39) 18(-9.84,-163.39) 19(9.84,-163.39) 20(29.53,-163.39) 21(49.21,-163.39) 22(68.9,-163.39) 23(88.58,-163.39) 24(108.27,-163.39) 37(108.27,163.39) 38(88.58,163.39) 39(68.9,163.39) 40(49.21,163.39) 41(29.53,163.39) 42(9.84,163.39) 43(-9.84,163.39) 44(-29.53,163.39) 45(-49.21,163.39) 46(-68.9,163.39) 47(-88.58,163.39) 48(-108.27,163.39)
Top Overlay:
  lines w6: -138,88 -88,138 ; -138,-138 138,-138 138,138 -138,138 -138,-138
3D body "LQFP48.STEP": height 62.99, standoff 0.03, extent -177.16,-177.17 177.17,177.16

## LQFP-48_7X7X1.6-L [mil]
pads (48):
  rect 44x11 smd: 1(-161.39,108.27) 2(-161.39,88.58) 3(-161.39,68.9) 4(-161.39,49.21) 5(-161.39,29.53) 6(-161.39,9.84) 7(-161.39,-9.84) 8(-161.39,-29.53) 9(-161.39,-49.21) 10(-161.39,-68.9) 11(-161.39,-88.58) 12(-161.39,-108.27) 25(161.39,-108.27) 26(161.39,-88.58) 27(161.39,-68.9) 28(161.39,-49.21) 29(161.39,-29.53) 30(161.39,-9.84) 31(161.39,9.84) 32(161.39,29.53) 33(161.39,49.21) 34(161.39,68.9) 35(161.39,88.58) 36(161.39,108.27)
  rect 11x44 smd: 13(-108.27,-161.39) 14(-88.58,-161.39) 15(-68.9,-161.39) 16(-49.21,-161.39) 17(-29.53,-161.39) 18(-9.84,-161.39) 19(9.84,-161.39) 20(29.53,-161.39) 21(49.21,-161.39) 22(68.9,-161.39) 23(88.58,-161.39) 24(108.27,-161.39) 37(108.27,161.39) 38(88.58,161.39) 39(68.9,161.39) 40(49.21,161.39) 41(29.53,161.39) 42(9.84,161.39) 43(-9.84,161.39) 44(-29.53,161.39) 45(-49.21,161.39) 46(-68.9,161.39) 47(-88.58,161.39) 48(-108.27,161.39)
Top Overlay:
  lines w6: -138,88 -88,138 ; -138,-138 138,-138 138,138 -138,138 -138,-138
3D body "LQFP48.STEP": height 62.99, standoff 0.03, extent -177.16,-177.17 177.17,177.16

## LQFP-48_7X7X1.6-M [mil]
pads (48):
  rect 68x11 smd: 1(-165.39,108.27) 2(-165.39,88.58) 3(-165.39,68.9) 4(-165.39,49.21) 5(-165.39,29.53) 6(-165.39,9.84) 7(-165.39,-9.84) 8(-165.39,-29.53) 9(-165.39,-49.21) 10(-165.39,-68.9) 11(-165.39,-88.58) 12(-165.39,-108.27) 25(165.39,-108.27) 26(165.39,-88.58) 27(165.39,-68.9) 28(165.39,-49.21) 29(165.39,-29.53) 30(165.39,-9.84) 31(165.39,9.84) 32(165.39,29.53) 33(165.39,49.21) 34(165.39,68.9) 35(165.39,88.58) 36(165.39,108.27)
  rect 11x68 smd: 13(-108.27,-165.39) 14(-88.58,-165.39) 15(-68.9,-165.39) 16(-49.21,-165.39) 17(-29.53,-165.39) 18(-9.84,-165.39) 19(9.84,-165.39) 20(29.53,-165.39) 21(49.21,-165.39) 22(68.9,-165.39) 23(88.58,-165.39) 24(108.27,-165.39) 37(108.27,165.39) 38(88.58,165.39) 39(68.9,165.39) 40(49.21,165.39) 41(29.53,165.39) 42(9.84,165.39) 43(-9.84,165.39) 44(-29.53,165.39) 45(-49.21,165.39) 46(-68.9,165.39) 47(-88.58,165.39) 48(-108.27,165.39)
Top Overlay:
  lines w6: -138,88 -88,138 ; -138,-138 138,-138 138,138 -138,138 -138,-138
3D body "LQFP48.STEP": height 62.99, standoff 0.03, extent -177.16,-177.17 177.17,177.16

## LQFP-64_10X10X00 [mm]
pads (64):
  rect 1.766x0.27 smd: 1(-5.676,3.75) 2(-5.676,3.25) 3(-5.676,2.75) 4(-5.676,2.25) 5(-5.676,1.75) 6(-5.676,1.25) 7(-5.676,0.75) 8(-5.676,0.25) 9(-5.676,-0.25) 10(-5.676,-0.75) 11(-5.676,-1.25) 12(-5.676,-1.75) 13(-5.676,-2.25) 14(-5.676,-2.75) 15(-5.676,-3.25) 16(-5.676,-3.75) 33(5.676,-3.75) 34(5.676,-3.25) 35(5.676,-2.75) 36(5.676,-2.25) 37(5.676,-1.75) 38(5.676,-1.25) 39(5.676,-0.75) 40(5.676,-0.25) 41(5.676,0.25) 42(5.676,0.75) 43(5.676,1.25) 44(5.676,1.75) 45(5.676,2.25) 46(5.676,2.75) 47(5.676,3.25) 48(5.676,3.75)
  rect 0.27x1.766 smd: 17(-3.75,-5.676) 18(-3.25,-5.676) 19(-2.75,-5.676) 20(-2.25,-5.676) 21(-1.75,-5.676) 22(-1.25,-5.676) 23(-0.75,-5.676) 24(-0.25,-5.676) 25(0.25,-5.676) 26(0.75,-5.676) 27(1.25,-5.676) 28(1.75,-5.676) 29(2.25,-5.676) 30(2.75,-5.676) 31(3.25,-5.676) 32(3.75,-5.676) 49(3.75,5.676) 50(3.25,5.676) 51(2.75,5.676) 52(2.25,5.676) 53(1.75,5.676) 54(1.25,5.676) 55(0.75,5.676) 56(0.25,5.676) 57(-0.25,5.676) 58(-0.75,5.676) 59(-1.25,5.676) 60(-1.75,5.676) 61(-2.25,5.676) 62(-2.75,5.676) 63(-3.25,5.676) 64(-3.75,5.676)
Top Overlay:
  circle w0.25: c-5.62,4.49 r0.125
  circle w0.6: c-3.726,3.751 r0.3
  region: -6.813,-0.56 -7.067,-0.56 -7.067,-0.941 -6.813,-0.941
  region: -1.559,6.813 -1.94,6.813 -1.94,7.067 -1.559,7.067
  region: 3.441,6.813 3.06,6.813 3.06,7.067 3.441,7.067
  region: 6.813,-0.059 7.067,-0.059 7.067,-0.44 6.813,-0.44
  region: 2.94,-6.813 2.559,-6.813 2.559,-7.067 2.94,-7.067
  region: -2.06,-6.813 -2.441,-6.813 -2.441,-7.067 -2.06,-7.067
  lines w0.152: -5.127,-4.218 -5.127,-5.127 -4.218,-5.127 ; -5.127,4.218 -5.127,5.127 -4.218,5.127 ; 4.218,-5.127 5.127,-5.127 5.127,-4.218 ; 4.218,5.127 5.127,5.127 5.127,4.218
Mechanical 1:
  drawing of 261 lines, arcs and shapes, not listed
3D body "User Library-LQFP64_Grid_0_5.STEP": height 1.6, standoff 0, extent -6,-6 6,6

## LQFP-64_10X10X01 [mm]
pads (64):
  rect 1.156x0.27 smd: 1(-5.574,3.75) 2(-5.574,3.25) 3(-5.574,2.75) 4(-5.574,2.25) 5(-5.574,1.75) 6(-5.574,1.25) 7(-5.574,0.75) 8(-5.574,0.25) 9(-5.574,-0.25) 10(-5.574,-0.75) 11(-5.574,-1.25) 12(-5.574,-1.75) 13(-5.574,-2.25) 14(-5.574,-2.75) 15(-5.574,-3.25) 16(-5.574,-3.75) 33(5.574,-3.75) 34(5.574,-3.25) 35(5.574,-2.75) 36(5.574,-2.25) 37(5.574,-1.75) 38(5.574,-1.25) 39(5.574,-0.75) 40(5.574,-0.25) 41(5.574,0.25) 42(5.574,0.75) 43(5.574,1.25) 44(5.574,1.75) 45(5.574,2.25) 46(5.574,2.75) 47(5.574,3.25) 48(5.574,3.75)
  rect 0.27x1.156 smd: 17(-3.75,-5.574) 18(-3.25,-5.574) 19(-2.75,-5.574) 20(-2.25,-5.574) 21(-1.75,-5.574) 22(-1.25,-5.574) 23(-0.75,-5.574) 24(-0.25,-5.574) 25(0.25,-5.574) 26(0.75,-5.574) 27(1.25,-5.574) 28(1.75,-5.574) 29(2.25,-5.574) 30(2.75,-5.574) 31(3.25,-5.574) 32(3.75,-5.574) 49(3.75,5.574) 50(3.25,5.574) 51(2.75,5.574) 52(2.25,5.574) 53(1.75,5.574) 54(1.25,5.574) 55(0.75,5.574) 56(0.25,5.574) 57(-0.25,5.574) 58(-0.75,5.574) 59(-1.25,5.574) 60(-1.75,5.574) 61(-2.25,5.574) 62(-2.75,5.574) 63(-3.25,5.574) 64(-3.75,5.574)
Top Overlay:
  circle w0.25: c-5.747,4.693 r0.125
  circle w0.6: c-3.828,3.929 r0.3
  region: -1.559,6.406 -1.94,6.406 -1.94,6.66 -1.559,6.66
  region: 3.441,6.406 3.06,6.406 3.06,6.66 3.441,6.66
  region: 6.406,-0.059 6.66,-0.059 6.66,-0.44 6.406,-0.44
  region: 2.94,-6.406 2.559,-6.406 2.559,-6.66 2.94,-6.66
  region: -2.06,-6.406 -2.441,-6.406 -2.441,-6.66 -2.06,-6.66
  lines w0.152: -5.127,-4.218 -5.127,-5.127 -4.218,-5.127 ; -5.127,4.218 -5.127,5.127 -4.218,5.127 ; 4.218,-5.127 5.127,-5.127 5.127,-4.218 ; 4.218,5.127 5.127,5.127 5.127,4.218
Mechanical 1:
  drawing of 261 lines, arcs and shapes, not listed
3D body "User Library-LQFP64_Grid_0_5.STEP": height 1.6, standoff 0, extent -6,-6 6,6